# Altium schematic symbol library Header 2X2.Schlib: 1 symbol
Pins are listed as number, name and electrical type; pins without a type are passive.

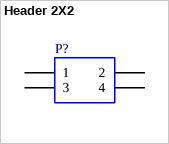
[diagram p0: symbol Header 2X2]

## Header 2X2
designator P?
Header, 2-Pin, Dual row
pins: 1, 2, 3, 4